# EAGLE library part WE-BAL_0603 (library WE-BAL)
WE-BAL Multilayer Chip Balun Characteristics Low loss SMD Balun with balanced impedance of 50 to 200 Ω Operating temperature: –40 °C to +85 °C Power Capacity: 2 W max. Applications RF applications Wireless communication systems like Home RF, DECT, WLAN, Bluetooth, ZigBee … <https://katalog.we-online.com/media/images/v2/o14748v209%20Baluns.jpg> Details see: https://katalog.we-online.com/en/pbs/WE-BAL Updated by Ella Wu 2019-08-16 2019 (C) Wurth Elektronik
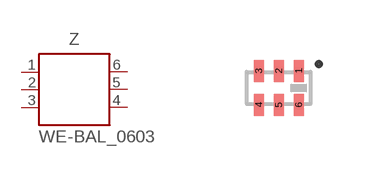
[diagram p1: symbol with the pads of WE-BAL_0603; footprint WE-BAL_0603]

Designator prefix Z

## WE-BAL_0603_748411245 (DATASHEET-URL: https://katalog.we-online.com/pbs/datasheet/748411245.pdf; IL: 1dB; IL1: 1.3dB; MOUNT: SMT; PART-NUMBER: 748411245; VALUE: 2400-2500 MHz; VSWR: 2), WE-BAL_0603_748412245 (DATASHEET-URL: https://katalog.we-online.com/pbs/datasheet/748412245.pdf; IL: 1.2dB; IL1: 2dB; MOUNT: SMT; PART-NUMBER: 748412245; VALUE: 2400-2500 MHz; VSWR: 2), WE-BAL_0603_748415245 (DATASHEET-URL: https://katalog.we-online.com/pbs/datasheet/748415245.pdf; IL: 1.2dB; IL1: 1.5dB; MOUNT: SMT; PART-NUMBER: 748415245; VALUE: 2400-2500 MHz; VSWR: 2)  [WE-BAL_0603]
1  1  pas
2  2  pas
3  3  pas
4  4  pas
5  5  pas
6  6  pas

## Footprint WE-BAL_0603 (pad centres in mm)
WE-BAL Multilayer Chip Balun Size: 0603
smd 0.25 x 0.55: 1 0.5,0.425; 2 0,0.425; 3 -0.5,0.425; 4 -0.5,-0.425; 5 0,-0.425; 6 0.5,-0.425